# EAGLE library part J_HEADER_RECTANGULAR_2X6 (library devon)
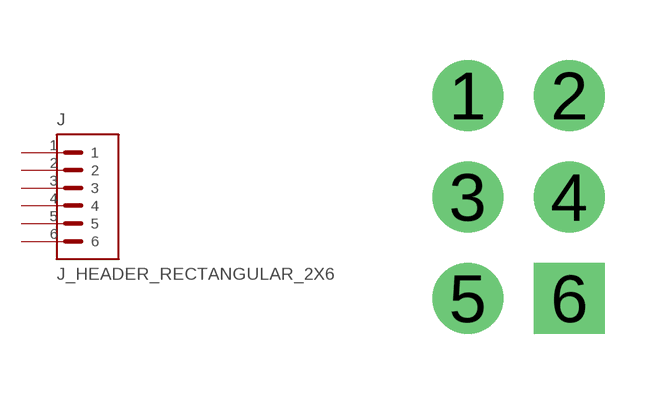
[diagram p4: symbol with the pads of RECTANGULAR_HEADER_2X3; footprint RECTANGULAR_HEADER_2X3]

Designator prefix J

## J_HEADER_RECTANGULAR_2X6  [RECTANGULAR_HEADER_2X3]
1  1
2  2
3  3
4  4
5  5
6  6

## Footprint RECTANGULAR_HEADER_2X3 (pad centres in mm)
drill 1 pad 1.778: 1 0,0; 2 2.54,0; 3 0,-2.54; 4 2.54,-2.54; 5 0,-5.08
drill 1 pad 1.778 square: 6 2.54,-5.08